# Altium footprint library SamacSys.PcbLib: 24 footprints (part 1 of 2)
Each footprint in its own frame and in the unit in brackets; x right, y up, seen from the top. Pads: shape width x height; smd on the part's side, far side on the other; paste and mask are expansions set on the pad; w line width, h text height; cw(c..) or ccw(c..) is an arc to the next point about the centre after c.
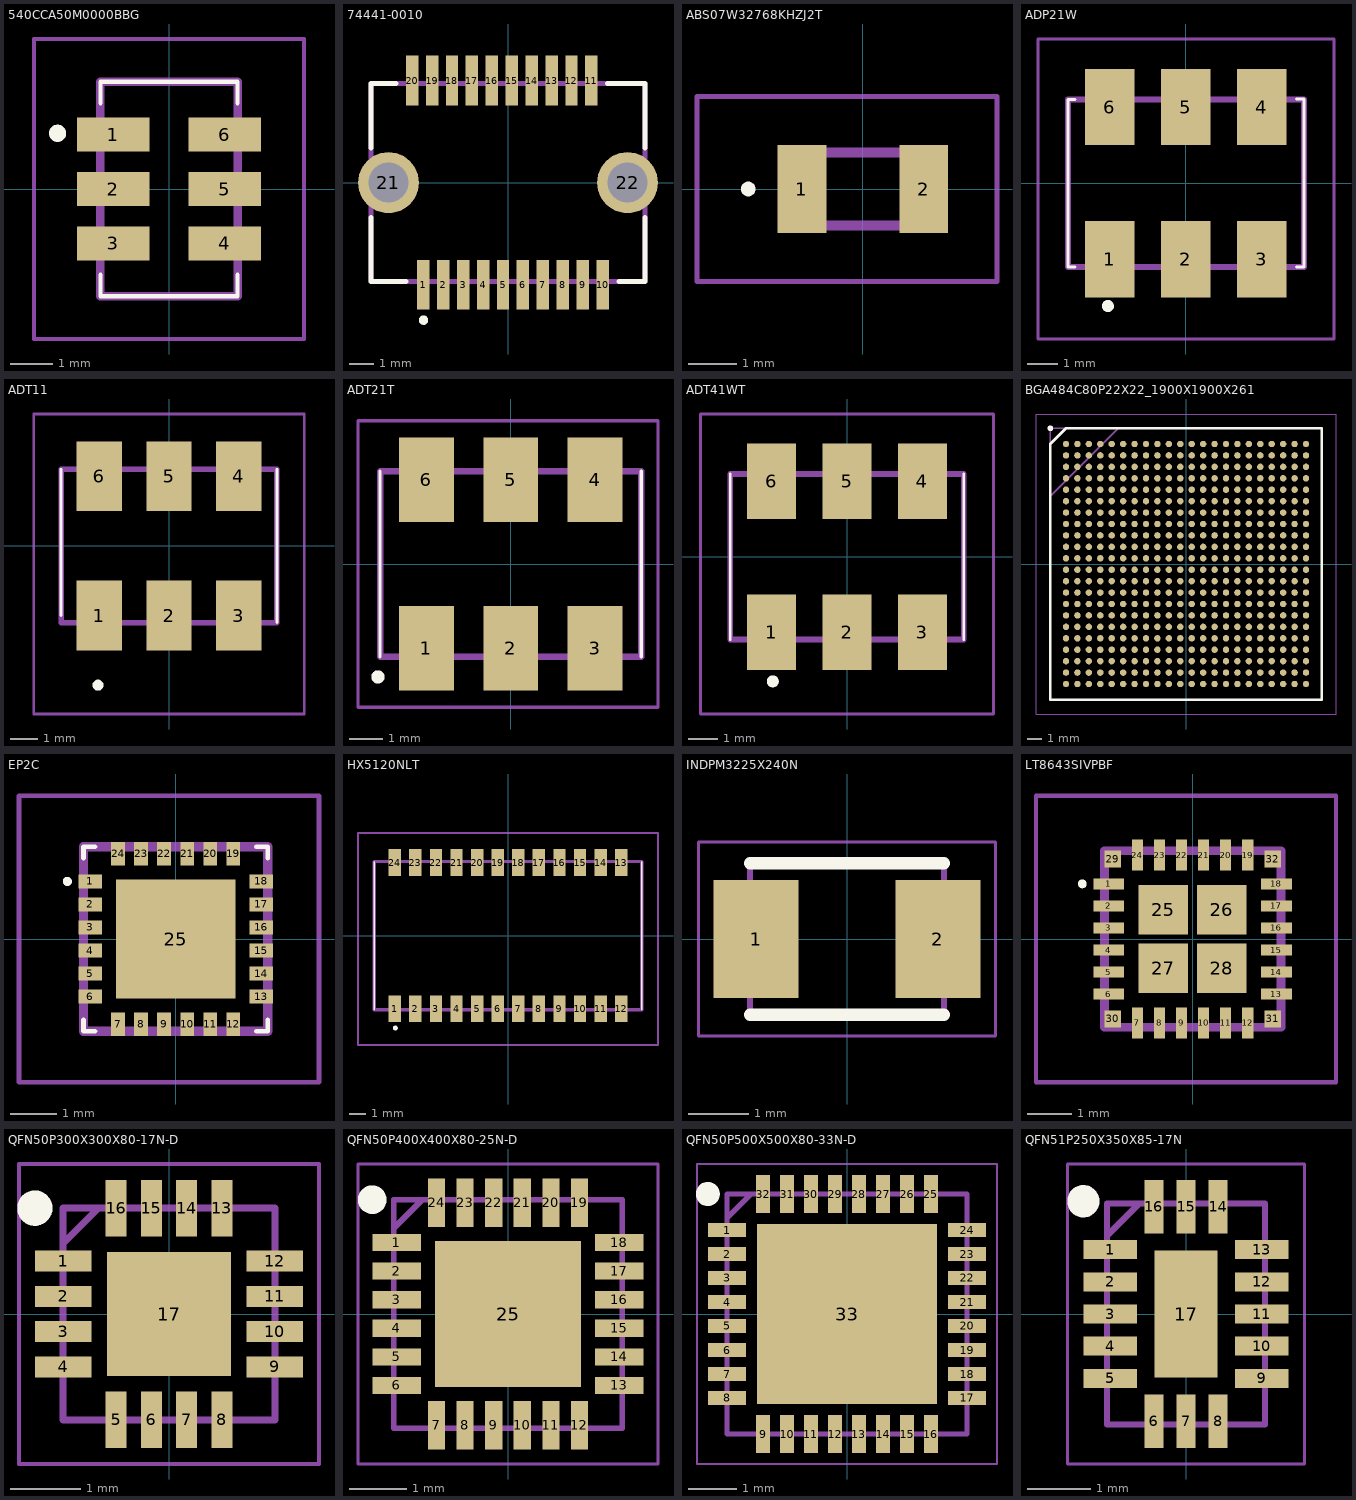
[diagram p0: the footprints below, top view; thin cyan lines are the x and y axes]

## 540CCA50M0000BBG [mm]
pads (6):
  rect 1.7x0.8 smd: 1(-1.3,1.27) 2(-1.3,0) 3(-1.3,-1.27) 4(1.3,-1.27) 5(1.3,0) 6(1.3,1.27)
Top Overlay:
  lines w0.1: -1.6,-2 -1.6,-2.5 1.6,-2.5 1.6,-2 ; -1.6,2 -1.6,2.5 1.6,2.5 1.6,2
  lines w0.2: -2.6,1.2 ccw(c-2.6,1.3) -2.6,1.4 ccw(c-2.6,1.3) -2.6,1.2
Mechanical 13:
  lines w0.2: -1.6,-2.5 -1.6,2.5 1.6,2.5 1.6,-2.5 -1.6,-2.5
Mechanical 15:
  lines w0.1: -3.15,-3.5 -3.15,3.5 3.15,3.5 3.15,-3.5 -3.15,-3.5
3D body "510JCA100M000BAG.stp": height 1.43, standoff 0, extent -2.07,-2.5 2.07,2.5

## 74441-0010 [mm]
pads (22):
  rect 0.5x2 smd: 1(-3.4,-4.1) 2(-2.6,-4.1) 3(-1.8,-4.1) 4(-1,-4.1) 5(-0.2,-4.1) 6(0.6,-4.1) 7(1.4,-4.1) 8(2.2,-4.1) 9(3,-4.1) 10(3.8,-4.1) 11(3.35,4.1) 12(2.55,4.1) 13(1.75,4.1) 14(0.95,4.1) 15(0.15,4.1) 16(-0.65,4.1) 17(-1.45,4.1) 18(-2.25,4.1) 19(-3.05,4.1) 20(-3.85,4.1)
  round 2.45 hole 1.6: 21(-4.8,0) 22(4.8,0)
Top Overlay:
  circle w0.2: c-3.392,-5.523 r0.088
  lines w0.2: -5.5,-1.4 -5.5,-3.975 -4.1,-3.975 ; -5.5,1.4 -5.5,3.975 -4.5,3.975 ; 4,3.975 5.5,3.975 5.5,1.4 ; 4.457,-3.975 5.5,-3.975 5.5,-1.4
Mechanical 13:
  lines w0.2: -5.5,-3.975 5.5,-3.975 5.5,3.975 -5.5,3.975 -5.5,-3.975
3D body "74441-0010.stp": height 5.17, standoff -1.1, extent -5.5,-4.56 5.5,4.59

## ABS07W32768KHZJ2T [mm]
pads (2):
  rect 1x1.8 smd: 1(-1.25,0) 2(1.25,0)
Top Overlay:
  lines w0.2: -2.4,0 ccw(c-2.35,0) -2.3,0 ; -2.4,0 cw(c-2.35,0) -2.3,0 ; -2.4,0 ccw(c-2.35,0) -2.3,0
Mechanical 13:
  lines w0.2: -1.6,-0.75 -1.6,0.75 1.6,0.75 1.6,-0.75 -1.6,-0.75
Mechanical 15:
  lines w0.1: -3.4,-1.9 -3.4,1.9 2.75,1.9 2.75,-1.9 -3.4,-1.9

## ADP21W [mm]
pads (6):
  rect 1.65x2.54 smd: 1(-2.54,-2.54) 2(0,-2.54) 3(2.54,-2.54) 4(2.54,2.54) 5(0,2.54) 6(-2.54,2.54)
Top Overlay:
  lines w0.1: -3.7,-2.795 -3.935,-2.8 -3.935,2.795 -3.7,2.795 ; 3.7,-2.8 3.95,-2.8 3.95,2.8 3.7,2.8
  lines w0.2: -2.6,-4.2 ccw(c-2.6,-4.1) -2.6,-4 ccw(c-2.6,-4.1) -2.6,-4.2
Mechanical 13:
  lines w0.2: -3.935,-2.795 3.95,-2.795 3.95,2.795 -3.935,2.795 -3.935,-2.795
Mechanical 15:
  lines w0.1: -4.935,-5.2 4.95,-5.2 4.95,4.81 -4.935,4.81 -4.935,-5.2
3D body "ADP-2-1W+.stp": height 4.11, standoff 0, extent -3.925,-3.645 3.945,3.265

## ADT11 [mm]
pads (6):
  rect 1.65x2.54 smd: 1(-2.54,-2.54) 2(0,-2.54) 3(2.54,-2.54) 4(2.54,2.54) 5(0,2.54) 6(-2.54,2.54)
Top Overlay:
  lines w0.1: -3.935,-2.54 -3.935,2.795 ; 3.935,-2.795 3.935,2.795
  lines w0.3: -2.64,-5.08 cw(c-2.59,-5.08) -2.54,-5.08 cw(c-2.59,-5.08) -2.64,-5.08
Mechanical 13:
  lines w0.2: -3.935,-2.795 3.935,-2.795 3.935,2.795 -3.935,2.795 -3.935,-2.795
Mechanical 15:
  lines w0.1: -4.935,-6.13 4.935,-6.13 4.935,4.81 -4.935,4.81 -4.935,-6.13
3D body "ADT1-1+.stp": height 2.94, standoff 0, extent -3.935,-2.795 3.935,2.795

## ADT21T [mm]
pads (6):
  rect 1.65x2.54 smd: 1(-2.54,-2.54) 2(0,-2.54) 3(2.54,-2.54) 4(2.54,2.54) 5(0,2.54) 6(-2.54,2.54)
Top Overlay:
  lines w0.1: -3.935,-2.795 -3.935,2.795 ; 3.935,-2.795 3.935,2.795
  lines w0.2: -4,-3.5 cw(c-4,-3.4) -4,-3.3 cw(c-4,-3.4) -4,-3.5
Mechanical 13:
  lines w0.2: -3.935,-2.795 3.935,-2.795 3.935,2.795 -3.935,2.795 -3.935,-2.795
Mechanical 15:
  lines w0.1: -4.6,-4.31 4.435,-4.31 4.435,4.31 -4.6,4.31 -4.6,-4.31
3D body "ADT2-1T+.stp": height 2.94, standoff 0, extent -3.935,-3.645 3.935,3.645

## ADT41WT [mm]
pads (6):
  rect 1.65x2.54 smd: 1(-2.54,-2.54) 2(0,-2.54) 3(2.54,-2.54) 4(2.54,2.54) 5(0,2.54) 6(-2.54,2.54)
Top Overlay:
  lines w0.1: -3.935,-2.795 -3.935,-2.54 -3.935,2.795 ; 3.935,-2.795 3.935,2.795
  lines w0.2: -2.6,-4.2 ccw(c-2.5,-4.2) -2.4,-4.2 ccw(c-2.5,-4.2) -2.6,-4.2
Mechanical 13:
  lines w0.2: -3.935,-2.795 -3.935,2.795 3.935,2.795 3.935,-2.795 -3.935,-2.795
Mechanical 15:
  lines w0.1: -4.935,-5.3 -4.935,4.81 4.935,4.81 4.935,-5.3 -4.935,-5.3
3D body "ADT4-1WT.stp": height 2.94, standoff 0, extent -3.935,-3.645 3.935,3.645

## BGA484C80P22X22_1900X1900X261 [mm]
pads (484):
  round 0.45 smd: A1(-8.4,8.4) A2(-7.6,8.4) A3(-6.8,8.4) A4(-6,8.4) A5(-5.2,8.4) A6(-4.4,8.4) A7(-3.6,8.4) A8(-2.8,8.4) A9(-2,8.4) A10(-1.2,8.4) A11(-0.4,8.4) A12(0.4,8.4) A13(1.2,8.4) A14(2,8.4) A15(2.8,8.4) A16(3.6,8.4) A17(4.4,8.4) A18(5.2,8.4) A19(6,8.4) A20(6.8,8.4) A21(7.6,8.4) A22(8.4,8.4) AA1(-8.4,-7.6) AA2(-7.6,-7.6) AA3(-6.8,-7.6) AA4(-6,-7.6) AA5(-5.2,-7.6) AA6(-4.4,-7.6) AA7(-3.6,-7.6) AA8(-2.8,-7.6) AA9(-2,-7.6) AA10(-1.2,-7.6) AA11(-0.4,-7.6) AA12(0.4,-7.6) AA13(1.2,-7.6) AA14(2,-7.6) AA15(2.8,-7.6) AA16(3.6,-7.6) AA17(4.4,-7.6) AA18(5.2,-7.6) AA19(6,-7.6) AA20(6.8,-7.6) AA21(7.6,-7.6) AA22(8.4,-7.6) AB1(-8.4,-8.4) AB2(-7.6,-8.4) AB3(-6.8,-8.4) AB4(-6,-8.4) AB5(-5.2,-8.4) AB6(-4.4,-8.4) AB7(-3.6,-8.4) AB8(-2.8,-8.4) AB9(-2,-8.4) AB10(-1.2,-8.4) AB11(-0.4,-8.4) AB12(0.4,-8.4) AB13(1.2,-8.4) AB14(2,-8.4) AB15(2.8,-8.4) AB16(3.6,-8.4) AB17(4.4,-8.4) AB18(5.2,-8.4) AB19(6,-8.4) AB20(6.8,-8.4) AB21(7.6,-8.4) AB22(8.4,-8.4) B1(-8.4,7.6) B2(-7.6,7.6) B3(-6.8,7.6) B4(-6,7.6) B5(-5.2,7.6) B6(-4.4,7.6) B7(-3.6,7.6) B8(-2.8,7.6) B9(-2,7.6) B10(-1.2,7.6) B11(-0.4,7.6) B12(0.4,7.6) B13(1.2,7.6) B14(2,7.6) B15(2.8,7.6) B16(3.6,7.6) B17(4.4,7.6) B18(5.2,7.6) B19(6,7.6) B20(6.8,7.6) B21(7.6,7.6) B22(8.4,7.6) C1(-8.4,6.8) C2(-7.6,6.8) C3(-6.8,6.8) C4(-6,6.8) C5(-5.2,6.8) C6(-4.4,6.8) C7(-3.6,6.8) C8(-2.8,6.8) C9(-2,6.8) C10(-1.2,6.8) C11(-0.4,6.8) C12(0.4,6.8) C13(1.2,6.8) C14(2,6.8) C15(2.8,6.8) C16(3.6,6.8) C17(4.4,6.8) C18(5.2,6.8) C19(6,6.8) C20(6.8,6.8) C21(7.6,6.8) C22(8.4,6.8) D1(-8.4,6) D2(-7.6,6) D3(-6.8,6) D4(-6,6) D5(-5.2,6) D6(-4.4,6) D7(-3.6,6) D8(-2.8,6) D9(-2,6) D10(-1.2,6) D11(-0.4,6) D12(0.4,6) D13(1.2,6) D14(2,6) D15(2.8,6) D16(3.6,6) D17(4.4,6) D18(5.2,6) D19(6,6) D20(6.8,6) D21(7.6,6) D22(8.4,6) E1(-8.4,5.2) E2(-7.6,5.2) E3(-6.8,5.2) E4(-6,5.2) E5(-5.2,5.2) E6(-4.4,5.2) E7(-3.6,5.2) E8(-2.8,5.2) E9(-2,5.2) E10(-1.2,5.2) E11(-0.4,5.2) E12(0.4,5.2) E13(1.2,5.2) E14(2,5.2) E15(2.8,5.2) E16(3.6,5.2) E17(4.4,5.2) E18(5.2,5.2) E19(6,5.2) E20(6.8,5.2) E21(7.6,5.2) E22(8.4,5.2) F1(-8.4,4.4) F2(-7.6,4.4) F3(-6.8,4.4) F4(-6,4.4) F5(-5.2,4.4) F6(-4.4,4.4) F7(-3.6,4.4) F8(-2.8,4.4) F9(-2,4.4) F10(-1.2,4.4) F11(-0.4,4.4) F12(0.4,4.4) F13(1.2,4.4) F14(2,4.4) F15(2.8,4.4) F16(3.6,4.4) F17(4.4,4.4) F18(5.2,4.4) F19(6,4.4) F20(6.8,4.4) F21(7.6,4.4) F22(8.4,4.4) G1(-8.4,3.6) G2(-7.6,3.6) G3(-6.8,3.6) G4(-6,3.6) G5(-5.2,3.6) G6(-4.4,3.6) G7(-3.6,3.6) G8(-2.8,3.6) G9(-2,3.6) G10(-1.2,3.6) G11(-0.4,3.6) G12(0.4,3.6) G13(1.2,3.6) G14(2,3.6) G15(2.8,3.6) G16(3.6,3.6) G17(4.4,3.6) G18(5.2,3.6) G19(6,3.6) G20(6.8,3.6) G21(7.6,3.6) G22(8.4,3.6) H1(-8.4,2.8) H2(-7.6,2.8) H3(-6.8,2.8) H4(-6,2.8) H5(-5.2,2.8) H6(-4.4,2.8) H7(-3.6,2.8) H8(-2.8,2.8) H9(-2,2.8) H10(-1.2,2.8) H11(-0.4,2.8) H12(0.4,2.8) H13(1.2,2.8) H14(2,2.8) H15(2.8,2.8) H16(3.6,2.8) H17(4.4,2.8) H18(5.2,2.8) H19(6,2.8) H20(6.8,2.8) H21(7.6,2.8) H22(8.4,2.8) J1(-8.4,2) J2(-7.6,2) J3(-6.8,2) J4(-6,2) J5(-5.2,2) J6(-4.4,2) J7(-3.6,2) J8(-2.8,2) J9(-2,2) J10(-1.2,2) J11(-0.4,2) J12(0.4,2) J13(1.2,2) J14(2,2) J15(2.8,2) J16(3.6,2) J17(4.4,2) J18(5.2,2) J19(6,2) J20(6.8,2) J21(7.6,2) J22(8.4,2) K1(-8.4,1.2) K2(-7.6,1.2) K3(-6.8,1.2) K4(-6,1.2) K5(-5.2,1.2) K6(-4.4,1.2) K7(-3.6,1.2) K8(-2.8,1.2) K9(-2,1.2) K10(-1.2,1.2) K11(-0.4,1.2) K12(0.4,1.2) K13(1.2,1.2) K14(2,1.2) K15(2.8,1.2) K16(3.6,1.2) K17(4.4,1.2) K18(5.2,1.2) K19(6,1.2) K20(6.8,1.2) K21(7.6,1.2) K22(8.4,1.2) L1(-8.4,0.4) L2(-7.6,0.4) L3(-6.8,0.4) L4(-6,0.4) L5(-5.2,0.4) L6(-4.4,0.4) L7(-3.6,0.4) L8(-2.8,0.4) L9(-2,0.4) L10(-1.2,0.4) L11(-0.4,0.4) L12(0.4,0.4) L13(1.2,0.4) L14(2,0.4) L15(2.8,0.4) L16(3.6,0.4) L17(4.4,0.4) L18(5.2,0.4) L19(6,0.4) L20(6.8,0.4) L21(7.6,0.4) L22(8.4,0.4) M1(-8.4,-0.4) M2(-7.6,-0.4) M3(-6.8,-0.4) M4(-6,-0.4) M5(-5.2,-0.4) M6(-4.4,-0.4) M7(-3.6,-0.4) M8(-2.8,-0.4) M9(-2,-0.4) M10(-1.2,-0.4) M11(-0.4,-0.4) M12(0.4,-0.4) M13(1.2,-0.4) M14(2,-0.4) M15(2.8,-0.4) M16(3.6,-0.4) M17(4.4,-0.4) M18(5.2,-0.4) M19(6,-0.4) M20(6.8,-0.4) M21(7.6,-0.4) M22(8.4,-0.4) N1(-8.4,-1.2) N2(-7.6,-1.2) N3(-6.8,-1.2) N4(-6,-1.2) N5(-5.2,-1.2) N6(-4.4,-1.2) N7(-3.6,-1.2) N8(-2.8,-1.2) N9(-2,-1.2) N10(-1.2,-1.2) N11(-0.4,-1.2) N12(0.4,-1.2) N13(1.2,-1.2) N14(2,-1.2) N15(2.8,-1.2) N16(3.6,-1.2) N17(4.4,-1.2) N18(5.2,-1.2) N19(6,-1.2) N20(6.8,-1.2) N21(7.6,-1.2) N22(8.4,-1.2) P1(-8.4,-2) P2(-7.6,-2) P3(-6.8,-2) P4(-6,-2) P5(-5.2,-2) P6(-4.4,-2) P7(-3.6,-2) P8(-2.8,-2) P9(-2,-2) P10(-1.2,-2) P11(-0.4,-2) P12(0.4,-2) P13(1.2,-2) P14(2,-2) P15(2.8,-2) P16(3.6,-2) P17(4.4,-2) P18(5.2,-2) P19(6,-2) P20(6.8,-2) P21(7.6,-2) P22(8.4,-2) R1(-8.4,-2.8) R2(-7.6,-2.8) R3(-6.8,-2.8) R4(-6,-2.8) R5(-5.2,-2.8) R6(-4.4,-2.8) R7(-3.6,-2.8) R8(-2.8,-2.8) R9(-2,-2.8) R10(-1.2,-2.8) R11(-0.4,-2.8) R12(0.4,-2.8) R13(1.2,-2.8) R14(2,-2.8) R15(2.8,-2.8) R16(3.6,-2.8) R17(4.4,-2.8) R18(5.2,-2.8) R19(6,-2.8) R20(6.8,-2.8) R21(7.6,-2.8) R22(8.4,-2.8) T1(-8.4,-3.6) T2(-7.6,-3.6) T3(-6.8,-3.6) T4(-6,-3.6) T5(-5.2,-3.6) T6(-4.4,-3.6) T7(-3.6,-3.6) T8(-2.8,-3.6) T9(-2,-3.6) T10(-1.2,-3.6) T11(-0.4,-3.6) T12(0.4,-3.6) T13(1.2,-3.6) T14(2,-3.6) T15(2.8,-3.6) T16(3.6,-3.6) T17(4.4,-3.6) T18(5.2,-3.6) T19(6,-3.6) T20(6.8,-3.6) T21(7.6,-3.6) T22(8.4,-3.6) U1(-8.4,-4.4) U2(-7.6,-4.4) U3(-6.8,-4.4) U4(-6,-4.4) U5(-5.2,-4.4) U6(-4.4,-4.4) U7(-3.6,-4.4) U8(-2.8,-4.4) U9(-2,-4.4) U10(-1.2,-4.4) U11(-0.4,-4.4) U12(0.4,-4.4) U13(1.2,-4.4) U14(2,-4.4) U15(2.8,-4.4) U16(3.6,-4.4) U17(4.4,-4.4) U18(5.2,-4.4) U19(6,-4.4) U20(6.8,-4.4) U21(7.6,-4.4) U22(8.4,-4.4) V1(-8.4,-5.2) V2(-7.6,-5.2) V3(-6.8,-5.2) V4(-6,-5.2) V5(-5.2,-5.2) V6(-4.4,-5.2) V7(-3.6,-5.2) V8(-2.8,-5.2) V9(-2,-5.2) V10(-1.2,-5.2) V11(-0.4,-5.2) V12(0.4,-5.2) V13(1.2,-5.2) V14(2,-5.2) V15(2.8,-5.2) V16(3.6,-5.2) V17(4.4,-5.2) V18(5.2,-5.2) V19(6,-5.2) V20(6.8,-5.2) V21(7.6,-5.2) V22(8.4,-5.2) W1(-8.4,-6) W2(-7.6,-6) W3(-6.8,-6) W4(-6,-6) W5(-5.2,-6) W6(-4.4,-6) W7(-3.6,-6) W8(-2.8,-6) W9(-2,-6) W10(-1.2,-6) W11(-0.4,-6) W12(0.4,-6) W13(1.2,-6) W14(2,-6) W15(2.8,-6) W16(3.6,-6) W17(4.4,-6) W18(5.2,-6) W19(6,-6) W20(6.8,-6) W21(7.6,-6) W22(8.4,-6) Y1(-8.4,-6.8) Y2(-7.6,-6.8) Y3(-6.8,-6.8) Y4(-6,-6.8) Y5(-5.2,-6.8) Y6(-4.4,-6.8) Y7(-3.6,-6.8) Y8(-2.8,-6.8) Y9(-2,-6.8) Y10(-1.2,-6.8) Y11(-0.4,-6.8) Y12(0.4,-6.8) Y13(1.2,-6.8) Y14(2,-6.8) Y15(2.8,-6.8) Y16(3.6,-6.8) Y17(4.4,-6.8) Y18(5.2,-6.8) Y19(6,-6.8) Y20(6.8,-6.8) Y21(7.6,-6.8) Y22(8.4,-6.8)
Top Overlay:
  circle w0.2: c-9.5,9.5 r0.1
  lines w0.2: -9.5,-9.5 -9.5,8.4 -8.4,9.5 9.5,9.5 9.5,-9.5 -9.5,-9.5
Mechanical 13:
  lines w0.1: -9.5,4.75 -4.75,9.5 ; -9.5,-9.5 -9.5,9.5 9.5,9.5 9.5,-9.5 -9.5,-9.5
Mechanical 15:
  lines w0.05: -10.5,-10.5 -10.5,10.5 10.5,10.5 10.5,-10.5 -10.5,-10.5
3D body "XCZU3EG-1SBVA484I.stp": height 2.61, standoff 0, extent -9.5,-9.5 9.5,9.5

## EP2C [mm]
pads (25):
  rect 0.51x0.3 smd: 1(-1.855,1.25) 2(-1.855,0.75) 3(-1.855,0.25) 4(-1.855,-0.25) 5(-1.855,-0.75) 6(-1.855,-1.25) 13(1.855,-1.25) 14(1.855,-0.75) 15(1.855,-0.25) 16(1.855,0.25) 17(1.855,0.75) 18(1.855,1.25)
  rect 0.3x0.51 smd: 7(-1.25,-1.855) 8(-0.75,-1.855) 9(-0.25,-1.855) 10(0.25,-1.855) 11(0.75,-1.855) 12(1.25,-1.855) 19(1.25,1.855) 20(0.75,1.855) 21(0.25,1.855) 22(-0.25,1.855) 23(-0.75,1.855) 24(-1.25,1.855)
  rect 2.59x2.59 smd: 25(0,0)
Top Overlay:
  lines w0.1: -2,-1.75 -2,-2 -1.75,-2 ; -2,1.75 -2,2 -1.75,2 ; 1.75,-2 2,-2 2,-1.75 ; 1.75,2 2,2 2,1.75 ; -2.4,1.25 ccw(c-2.35,1.25) -2.3,1.25 ccw(c-2.35,1.25) -2.4,1.25
Mechanical 13:
  lines w0.2: -2,-2 2,-2 2,2 -2,2 -2,-2
Mechanical 15:
  lines w0.1: -3.4,-3.11 3.11,-3.11 3.11,3.11 -3.4,3.11 -3.4,-3.11
3D body "EP2C+.stp": height 1.1, standoff 0, extent -2,-2 2,2

## HX5120NLT [mm]
pads (24):
  rect 0.76x1.65 smd: 1(-6.985,-4.51) 2(-5.715,-4.51) 3(-4.445,-4.51) 4(-3.175,-4.51) 5(-1.905,-4.51) 6(-0.635,-4.51) 7(0.635,-4.51) 8(1.905,-4.51) 9(3.175,-4.51) 10(4.445,-4.51) 11(5.715,-4.51) 12(6.985,-4.51) 13(6.985,4.51) 14(5.715,4.51) 15(4.445,4.51) 16(3.175,4.51) 17(1.905,4.51) 18(0.635,4.51) 19(-0.635,4.51) 20(-1.905,4.51) 21(-3.175,4.51) 22(-4.445,4.51) 23(-5.715,4.51) 24(-6.985,4.51)
Top Overlay:
  lines w0.1: -8.255,-4.57 -8.255,4.57 -8.255,-4.57 ; 8.255,-4.57 8.255,4.57 8.255,-4.57
  lines w0.2: -7,-5.7 ccw(c-6.95,-5.7) -6.9,-5.7 ; -7,-5.7 cw(c-6.95,-5.7) -6.9,-5.7 ; -7,-5.7 ccw(c-6.95,-5.7) -6.9,-5.7
Mechanical 13:
  lines w0.2: -8.255,-4.57 8.255,-4.57 8.255,4.57 -8.255,4.57 -8.255,-4.57
Mechanical 15:
  lines w0.1: -9.255,-6.75 9.255,-6.75 9.255,6.335 -9.255,6.335 -9.255,-6.75
3D body "HX5120NLT.stp": height 2.18, standoff 0, extent -8.255,-5.259 8.255,5.259

## INDPM3225X240N [mm]
pads (2):
  rect 1.4x1.95 smd: 1(-1.5,0) 2(1.5,0)
Top Overlay:
  lines w0.2: -1.6,-1.25 1.6,-1.25 ; -1.6,1.25 1.6,1.25
Mechanical 13:
  lines w0.1: -1.6,-1.25 1.6,-1.25 1.6,1.25 -1.6,1.25 -1.6,-1.25
Mechanical 15:
  lines w0.05: -2.45,-1.6 2.45,-1.6 2.45,1.6 -2.45,1.6 -2.45,-1.6
3D body "NLFV32T-100K-EF.stp": height 2.4, standoff 0, extent -1.6,-1.25 1.6,1.25

## LT8643SIVPBF [mm]
pads (32):
  rect 0.7x0.25 smd: 1(-1.9,1.25) 2(-1.9,0.75) 3(-1.9,0.25) 4(-1.9,-0.25) 5(-1.9,-0.75) 6(-1.9,-1.25) 13(1.9,-1.25) 14(1.9,-0.75) 15(1.9,-0.25) 16(1.9,0.25) 17(1.9,0.75) 18(1.9,1.25)
  rect 0.25x0.7 smd: 7(-1.25,-1.9) 8(-0.75,-1.9) 9(-0.25,-1.9) 10(0.25,-1.9) 11(0.75,-1.9) 12(1.25,-1.9) 19(1.25,1.9) 20(0.75,1.9) 21(0.25,1.9) 22(-0.25,1.9) 23(-0.75,1.9) 24(-1.25,1.9)
  rect 1.125x1.125 smd: 25(-0.662,0.663) 26(0.662,0.663) 27(-0.662,-0.662) 28(0.662,-0.662)
  rect 0.375x0.375 smd: 29(-1.813,1.813) 30(-1.813,-1.813) 31(1.813,-1.813) 32(1.813,1.813)
Top Overlay:
  lines w0.1: -2.5,1.2 cw(c-2.5,1.25) -2.5,1.3 cw(c-2.5,1.25) -2.5,1.2
Mechanical 13:
  lines w0.2: -2,-2 -2,2 2,2 2,-2 -2,-2
Mechanical 15:
  lines w0.1: -3.55,-3.25 -3.55,3.25 3.25,3.25 3.25,-3.25 -3.55,-3.25

## QFN50P300X300X80-17N-D [mm]
pads (17):
  rect 0.8x0.3 smd: 1(-1.5,0.75) 2(-1.5,0.25) 3(-1.5,-0.25) 4(-1.5,-0.75) 9(1.5,-0.75) 10(1.5,-0.25) 11(1.5,0.25) 12(1.5,0.75)
  rect 0.3x0.8 smd: 5(-0.75,-1.5) 6(-0.25,-1.5) 7(0.25,-1.5) 8(0.75,-1.5) 13(0.75,1.5) 14(0.25,1.5) 15(-0.25,1.5) 16(-0.75,1.5)
  rect 1.75x1.75 smd: 17(0,0)
Top Overlay:
  circle w0.25: c-1.9,1.5 r0.125
Mechanical 13:
  lines w0.1: -1.5,1 -1,1.5 ; -1.5,-1.5 -1.5,1.5 1.5,1.5 1.5,-1.5 -1.5,-1.5
Mechanical 15:
  lines w0.05: -2.125,-2.125 -2.125,2.125 2.125,2.125 2.125,-2.125 -2.125,-2.125
3D body "ADP1763ACPZ-R7.stp": height 0.8, standoff 0, extent -1.55,-1.55 1.55,1.55

## QFN50P400X400X80-25N-D [mm]
pads (25):
  rect 0.85x0.3 smd: 1(-1.95,1.25) 2(-1.95,0.75) 3(-1.95,0.25) 4(-1.95,-0.25) 5(-1.95,-0.75) 6(-1.95,-1.25) 13(1.95,-1.25) 14(1.95,-0.75) 15(1.95,-0.25) 16(1.95,0.25) 17(1.95,0.75) 18(1.95,1.25)
  rect 0.3x0.85 smd: 7(-1.25,-1.95) 8(-0.75,-1.95) 9(-0.25,-1.95) 10(0.25,-1.95) 11(0.75,-1.95) 12(1.25,-1.95) 19(1.25,1.95) 20(0.75,1.95) 21(0.25,1.95) 22(-0.25,1.95) 23(-0.75,1.95) 24(-1.25,1.95)
  rect 2.55x2.55 smd: 25(0,0)
Top Overlay:
  circle w0.25: c-2.375,2 r0.125
Mechanical 13:
  lines w0.1: -2,1.5 -1.5,2 ; -2,-2 -2,2 2,2 2,-2 -2,-2
Mechanical 15:
  lines w0.05: -2.625,-2.625 -2.625,2.625 2.625,2.625 2.625,-2.625 -2.625,-2.625
3D body "LTC5598IUFPBF.stp": height 0.8, standoff 0, extent -2.05,-2.05 2.05,2.05

## QFN50P500X500X80-33N-D [mm]
pads (33):
  rect 0.8x0.3 smd: 1(-2.5,1.75) 2(-2.5,1.25) 3(-2.5,0.75) 4(-2.5,0.25) 5(-2.5,-0.25) 6(-2.5,-0.75) 7(-2.5,-1.25) 8(-2.5,-1.75) 17(2.5,-1.75) 18(2.5,-1.25) 19(2.5,-0.75) 20(2.5,-0.25) 21(2.5,0.25) 22(2.5,0.75) 23(2.5,1.25) 24(2.5,1.75)
  rect 0.3x0.8 smd: 9(-1.75,-2.5) 10(-1.25,-2.5) 11(-0.75,-2.5) 12(-0.25,-2.5) 13(0.25,-2.5) 14(0.75,-2.5) 15(1.25,-2.5) 16(1.75,-2.5) 25(1.75,2.5) 26(1.25,2.5) 27(0.75,2.5) 28(0.25,2.5) 29(-0.25,2.5) 30(-0.75,2.5) 31(-1.25,2.5) 32(-1.75,2.5)
  rect 3.75x3.75 smd: 33(0,0)
Top Overlay:
  circle w0.25: c-2.9,2.5 r0.125
Mechanical 13:
  lines w0.1: -2.5,2 -2,2.5 ; -2.5,-2.5 2.5,-2.5 2.5,2.5 -2.5,2.5 -2.5,-2.5
Mechanical 15:
  lines w0.05: -3.125,-3.125 3.125,-3.125 3.125,3.125 -3.125,3.125 -3.125,-3.125
3D body "AD7124-8BCPZ.stp": height 0.8, standoff 0, extent -2.55,-2.55 2.55,2.55

## QFN51P250X350X85-17N [mm]
pads (17):
  rect 0.85x0.3 smd: 1(-1.2,1.02) 2(-1.2,0.51) 3(-1.2,0) 4(-1.2,-0.51) 5(-1.2,-1.02) 9(1.2,-1.02) 10(1.2,-0.51) 11(1.2,0) 12(1.2,0.51) 13(1.2,1.02)
  rect 0.3x0.85 smd: 6(-0.51,-1.7) 7(0,-1.7) 8(0.51,-1.7) 14(0.51,1.7) 15(0,1.7) 16(-0.51,1.7)
  rect 0.99x2.01 smd: 17(0,0)
Top Overlay:
  circle w0.255: c-1.626,1.785 r0.128
Mechanical 13:
  lines w0.1: -1.25,1.24 -0.74,1.75 ; -1.25,-1.75 -1.25,1.75 1.25,1.75 1.25,-1.75 -1.25,-1.75
Mechanical 15:
  lines w0.05: -1.875,-2.375 -1.875,2.375 1.875,2.375 1.875,-2.375 -1.875,-2.375
3D body "MBT-283+.stp": height 0.85, standoff 0, extent -1.3,-1.8 1.3,1.8